# EAGLE library part FPS009-30* (library con-yamaichi)
SD Card and MMC Reader (Manual Insertion) Source: http://www.yamaichi.de/pdf/c_fps009_3000.pdf
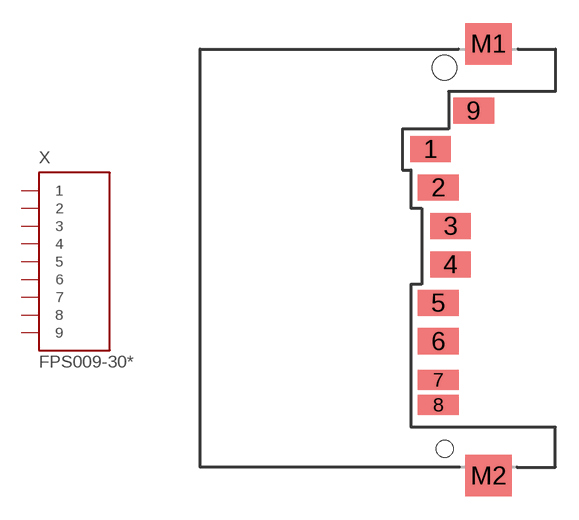
[diagram p33: symbol with the pads of FPS009-3003; footprint FPS009-3003]

Designator prefix X

## FPS009-30003 (MPN: FPS009-3003-BL; OC_FARNELL: 1143953; OC_NEWARK: 91K9876), FPS009-30005 (OC_FARNELL: unknown; OC_NEWARK: unknown)  [FPS009-3003]
1  1  in
2  2  in
3  3  in
4  4  in
5  5  in
6  6  in
7  7  in
8  8  in
9  9  in

## Footprint FPS009-3003 (pad centres in mm)
SD Card and MMC Reader (Manual Insertion) Source: http://www.yamaichi.de/pdf/c_fps009_3000.pdf
smd 2.65 x 1.7: 1 -0.915,-5.3; 2 -0.415,-7.8; 3 0.385,-10.3; 4 0.385,-12.8; 5 -0.415,-15.3; 6 -0.415,-17.8; 9 1.885,-2.8
smd 2.65 x 1.3: 7 -0.415,-20.3; 8 -0.415,-21.925
smd 3 x 2.7: M1 2.85,1.55; M2 2.85,-26.55
hole 1.6 at 0,0
hole 1.1 at 0,-24.8